# Altium integrated library Renesas Microprocessor SuperH.IntLib: 433 symbols (part 56 of 62)
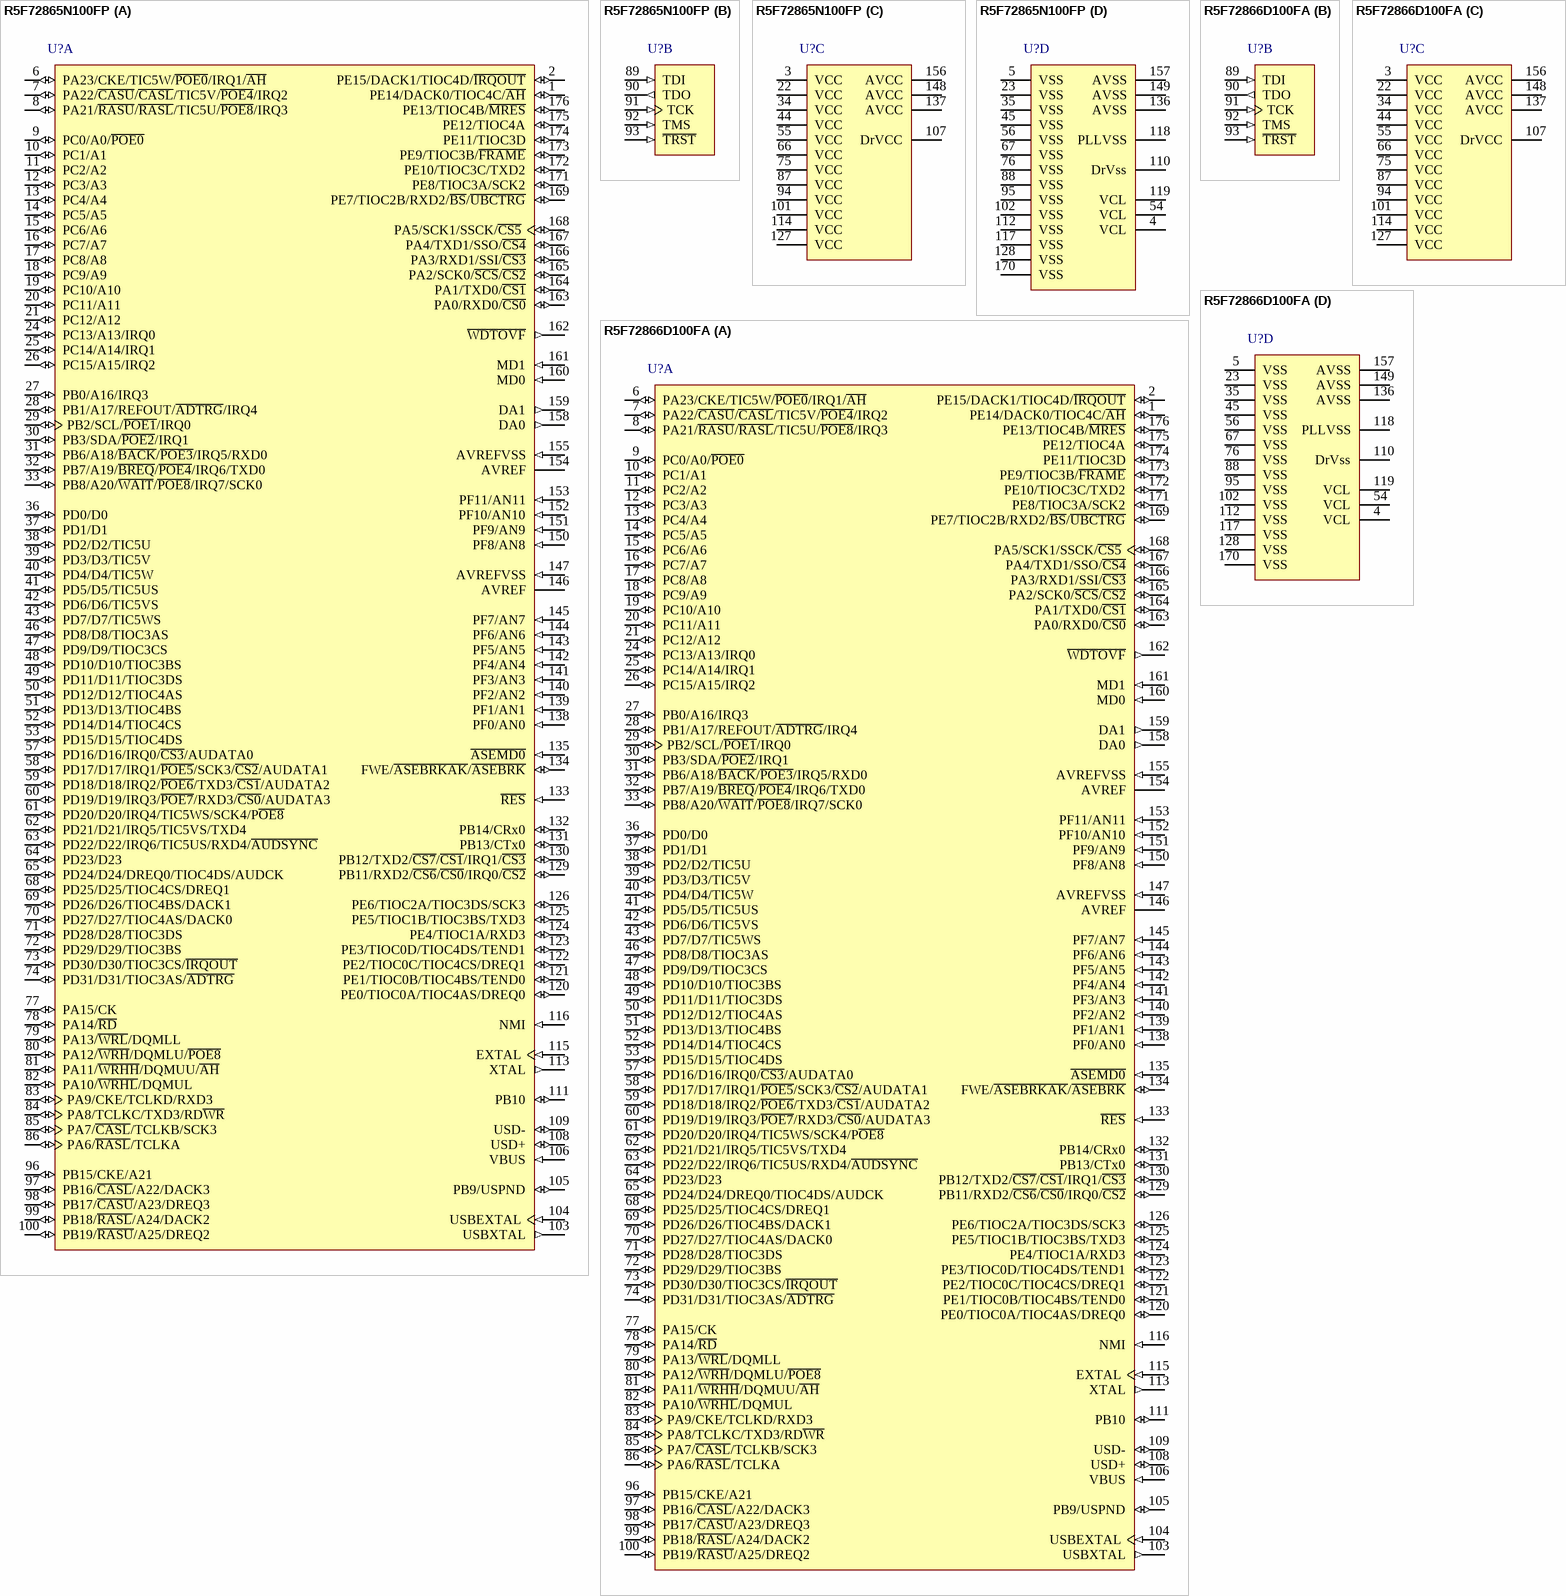
[diagram p413: symbols R5F72865N100FP to R5F72866D100FA]

## R5F72866D100FA
designator U?
32-Bit RISC Microcomputer, SH7280 Series, SH-2A core, 100MHz, 768K ROM, 32K RAM, 20x20mm 176-pin PLQFP, -40 to 85°C; Published: 28-Aug-2009; DatasheetVersion: Rev.1.00, Jun-2008; PackageVersion: Sep-2005; PackageReference: PLQP0176LB-A; Publisher: Altium Limited; PackageDescription: 176-Pin Plastic Low Profile QFP, 20 x 20 x 1.4 mm Body, 0.4 mm Pitch; Code_JEITA: P-LQFP176-20x20-0.40; ComponentLink1Description: Manufacturer Link; ComponentLink1URL: http://www.renesas.com/fmwk.jsp?cnt=sh7286_root.jsp&fp=/products/mpumcu/superh_family/sh7280_series/sh7286_group/; ComponentLink2Description: Datasheet; ComponentLink2URL: http://documentation.renesas.com/eng/products/mpumcu/rej09b0393_sh7280hm.pdf; ComponentLink3Description: Packaging Specification; ComponentLink3URL: http://sg.renesas.com/media/products/common_info/package/pdf/ic/code/plqp0176lb_a.pdf
footprint PLQP0176LB-A_N (Shrink QFP, 176-Leads, Body 20x20mm, Pitch 0.4mm, IPC Medium Density)
footprint PLQP0176LB-A_L (Shrink QFP, 176-Leads, Body 20x20mm, Pitch 0.4mm, IPC High Density)
footprint PLQP0176LB-A_M (Shrink QFP, 176-Leads, Body 20x20mm, Pitch 0.4mm, IPC Low Density)
part A pins: 1 PE14/DACK0/TIOC4C/~{AH} (io), 2 PE15/DACK1/TIOC4D/~{IRQOUT} (io), 6 PA23/CKE/TIC5W/~{POE0}/IRQ1/~{AH} (io), 7 PA22/~{CASU}/~{CASL}/TIC5V/~{POE4}/IRQ2 (io), 8 PA21/~{RASU}/~{RASL}/TIC5U/~{POE8}/IRQ3 (io), 9 PC0/A0/~{POE0} (io), 10 PC1/A1 (io), 11 PC2/A2 (io), 12 PC3/A3 (io), 13 PC4/A4 (io), 14 PC5/A5 (io), 15 PC6/A6 (io), 16 PC7/A7 (io), 17 PC8/A8 (io), 18 PC9/A9 (io), 19 PC10/A10 (io), 20 PC11/A11 (io), 21 PC12/A12 (io), 24 PC13/A13/IRQ0 (io), 25 PC14/A14/IRQ1 (io), 26 PC15/A15/IRQ2 (io), 27 PB0/A16/IRQ3 (io), 28 PB1/A17/REFOUT/~{ADTRG}/IRQ4 (io), 29 PB2/SCL/~{POE1}/IRQ0 (io), 30 PB3/SDA/~{POE2}/IRQ1 (io), 31 PB6/A18/~{BACK}/~{POE3}/IRQ5/RXD0 (io), 32 PB7/A19/~{BREQ}/~{POE4}/IRQ6/TXD0 (io), 33 PB8/A20/~{WAIT}/~{POE8}/IRQ7/SCK0 (io), 36 PD0/D0 (io), 37 PD1/D1 (io), 38 PD2/D2/TIC5U (io), 39 PD3/D3/TIC5V (io), 40 PD4/D4/TIC5W (io), 41 PD5/D5/TIC5US (io), 42 PD6/D6/TIC5VS (io), 43 PD7/D7/TIC5WS (io), 46 PD8/D8/TIOC3AS (io), 47 PD9/D9/TIOC3CS (io), 48 PD10/D10/TIOC3BS (io), 49 PD11/D11/TIOC3DS (io), 50 PD12/D12/TIOC4AS (io), 51 PD13/D13/TIOC4BS (io), 52 PD14/D14/TIOC4CS (io), 53 PD15/D15/TIOC4DS (io), 57 PD16/D16/IRQ0/~{CS3}/AUDATA0 (io), 58 PD17/D17/IRQ1/~{POE5}/SCK3/~{CS2}/AUDATA1 (io), 59 PD18/D18/IRQ2/~{POE6}/TXD3/~{CS1}/AUDATA2 (io), 60 PD19/D19/IRQ3/~{POE7}/RXD3/~{CS0}/AUDATA3 (io), 61 PD20/D20/IRQ4/TIC5WS/SCK4/P~{OE8} (io), 62 PD21/D21/IRQ5/TIC5VS/TXD4 (io), 63 PD22/D22/IRQ6/TIC5US/RXD4/~{AUDSYNC} (io), 64 PD23/D23 (io), 65 PD24/D24/DREQ0/TIOC4DS/AUDCK (io), 68 PD25/D25/TIOC4CS/DREQ1 (io), 69 PD26/D26/TIOC4BS/DACK1 (io), 70 PD27/D27/TIOC4AS/DACK0 (io), 71 PD28/D28/TIOC3DS (io), 72 PD29/D29/TIOC3BS (io), 73 PD30/D30/TIOC3CS/~{IRQOUT} (io), 74 PD31/D31/TIOC3AS/~{ADTRG} (io), 77 PA15/CK (io), 78 PA14/~{RD} (io), 79 PA13/~{WRL}/DQMLL (io), 80 PA12/~{WRH}/DQMLU/~{POE8} (io), 81 PA11/~{WRHH}/DQMUU/~{AH} (io), 82 PA10/~{WRHL}/DQMUL (io), 83 PA9/CKE/TCLKD/RXD3 (io), 84 PA8/TCLKC/TXD3/RD~{WR} (io), 85 PA7/~{CASL}/TCLKB/SCK3 (io), 86 PA6/~{RASL}/TCLKA (io), 96 PB15/CKE/A21 (io), 97 PB16/~{CASL}/A22/DACK3 (io), 98 PB17/~{CASU}/A23/DREQ3 (io), 99 PB18/~{RASL}/A24/DACK2 (io), 100 PB19/~{RASU}/A25/DREQ2 (io), 103 USBXTAL (out), 104 USBEXTAL (in), 105 PB9/USPND (io), 106 VBUS (in), 108 USD+ (io), 109 USD- (io), 111 PB10 (io), 113 XTAL (out), 115 EXTAL (in), 116 NMI (in), 120 PE0/TIOC0A/TIOC4AS/DREQ0 (io), 121 PE1/TIOC0B/TIOC4BS/TEND0 (io), 122 PE2/TIOC0C/TIOC4CS/DREQ1 (io), 123 PE3/TIOC0D/TIOC4DS/TEND1 (io), 124 PE4/TIOC1A/RXD3 (io), 125 PE5/TIOC1B/TIOC3BS/TXD3 (io), 126 PE6/TIOC2A/TIOC3DS/SCK3 (io), 129 PB11/RXD2/~{CS6}/~{CS0}/IRQ0/~{CS2} (io), 130 PB12/TXD2/~{CS7}/~{CS1}/IRQ1/~{CS3} (io), 131 PB13/CTx0 (io), 132 PB14/CRx0 (io), 133 ~{RES} (in), 134 FWE/~{ASEBRKAK}/~{ASEBRK} (io), 135 ~{ASEMD0} (in), 138 PF0/AN0 (in), 139 PF1/AN1 (in), 140 PF2/AN2 (in), 141 PF3/AN3 (in), 142 PF4/AN4 (in), 143 PF5/AN5 (in), 144 PF6/AN6 (in), 145 PF7/AN7 (in), 146 AVREF (power), 147 AVREFVSS (in), 150 PF8/AN8 (in), 151 PF9/AN9 (in), 152 PF10/AN10 (in), 153 PF11/AN11 (in), 154 AVREF (power), 155 AVREFVSS (in), 158 DA0 (out), 159 DA1 (out), 160 MD0 (in), 161 MD1 (in), 162 ~{WDTOVF} (out), 163 PA0/RXD0/~{CS0} (io), 164 PA1/TXD0/~{CS1} (io), 165 PA2/SCK0/~{SCS}/~{CS2} (io), 166 PA3/RXD1/SSI/~{CS3} (io), 167 PA4/TXD1/SSO/~{CS4} (io), 168 PA5/SCK1/SSCK/~{CS5} (io), 169 PE7/TIOC2B/RXD2/~{BS}/~{UBCTRG} (io), 171 PE8/TIOC3A/SCK2 (io), 172 PE10/TIOC3C/TXD2 (io), 173 PE9/TIOC3B/~{FRAME} (io), 174 PE11/TIOC3D (io), 175 PE12/TIOC4A (io), 176 PE13/TIOC4B/~{MRES} (io)
part B pins: 89 TDI (in), 90 TDO (out), 91 TCK (in), 92 TMS (in), 93 ~{TRST} (in)
part C pins: 3 VCC (power), 22 VCC (power), 34 VCC (power), 44 VCC (power), 55 VCC (power), 66 VCC (power), 75 VCC (power), 87 VCC (power), 94 VCC (power), 101 VCC (power), 107 DrVCC (power), 114 VCC (power), 127 VCC (power), 137 AVCC (power), 148 AVCC (power), 156 AVCC (power)
part D pins: 4 VCL (power), 5 VSS (power), 23 VSS (power), 35 VSS (power), 45 VSS (power), 54 VCL (power), 56 VSS (power), 67 VSS (power), 76 VSS (power), 88 VSS (power), 95 VSS (power), 102 VSS (power), 110 DrVss (power), 112 VSS (power), 117 VSS (power), 118 PLLVSS (power), 119 VCL (power), 128 VSS (power), 136 AVSS (power), 149 AVSS (power), 157 AVSS (power), 170 VSS (power)

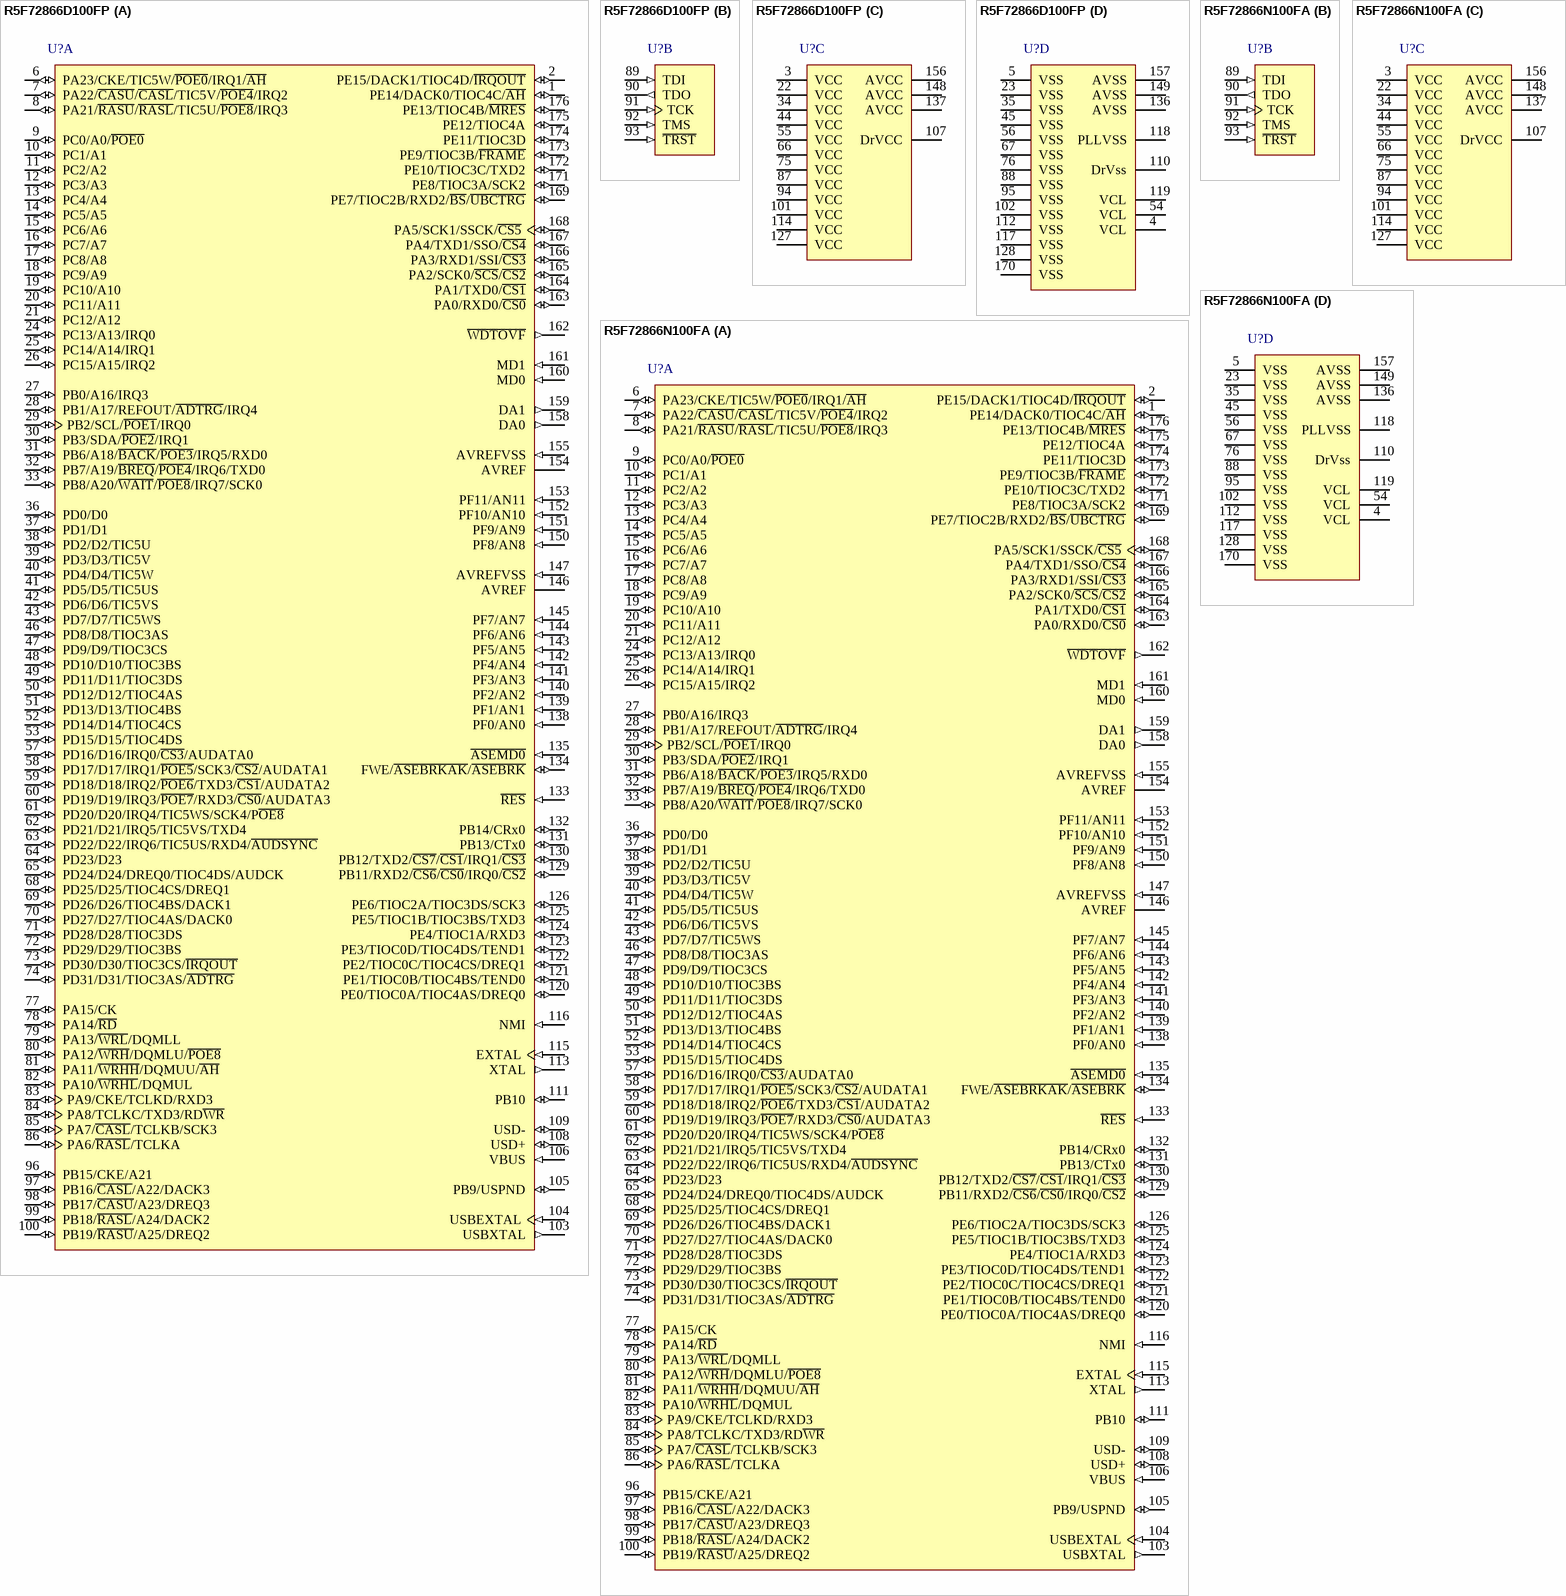
[diagram p189: symbols R5F72866D100FP to R5F72866N100FA]

## R5F72866D100FP
designator U?
32-Bit RISC Microcomputer, SH7280 Series, SH-2A core, 100MHz, 768K ROM, 32K RAM, 24x24mm 176-pin PLQFP, -40 to 85°C; Published: 28-Aug-2009; DatasheetVersion: Rev.1.00, Jun-2008; PackageVersion: Oct-2005; PackageReference: PLQP0176KB-A; Publisher: Altium Limited; PackageDescription: 176-Pin Plastic Low Profile QFP, 24 x 24 x 1.4 mm Body, 0.5 mm Pitch; Code_JEITA: P-LQFP176-24x24-0.50; ComponentLink1Description: Manufacturer Link; ComponentLink1URL: http://www.renesas.com/fmwk.jsp?cnt=sh7286_root.jsp&fp=/products/mpumcu/superh_family/sh7280_series/sh7286_group/; ComponentLink2Description: Datasheet; ComponentLink2URL: http://documentation.renesas.com/eng/products/mpumcu/rej09b0393_sh7280hm.pdf; ComponentLink3Description: Packaging Specification; ComponentLink3URL: http://sg.renesas.com/media/products/common_info/package/pdf/ic/code/plqp0176kb_a.pdf
footprint PLQP0176KB-A_N (Shrink QFP, 176-Leads, Body 24x24mm, Pitch 0.5mm, IPC Medium Density)
footprint PLQP0176KB-A_L (Shrink QFP, 176-Leads, Body 24x24mm, Pitch 0.5mm, IPC High Density)
footprint PLQP0176KB-A_M (Shrink QFP, 176-Leads, Body 24x24mm, Pitch 0.5mm, IPC Low Density)
part A pins: 1 PE14/DACK0/TIOC4C/~{AH} (io), 2 PE15/DACK1/TIOC4D/~{IRQOUT} (io), 6 PA23/CKE/TIC5W/~{POE0}/IRQ1/~{AH} (io), 7 PA22/~{CASU}/~{CASL}/TIC5V/~{POE4}/IRQ2 (io), 8 PA21/~{RASU}/~{RASL}/TIC5U/~{POE8}/IRQ3 (io), 9 PC0/A0/~{POE0} (io), 10 PC1/A1 (io), 11 PC2/A2 (io), 12 PC3/A3 (io), 13 PC4/A4 (io), 14 PC5/A5 (io), 15 PC6/A6 (io), 16 PC7/A7 (io), 17 PC8/A8 (io), 18 PC9/A9 (io), 19 PC10/A10 (io), 20 PC11/A11 (io), 21 PC12/A12 (io), 24 PC13/A13/IRQ0 (io), 25 PC14/A14/IRQ1 (io), 26 PC15/A15/IRQ2 (io), 27 PB0/A16/IRQ3 (io), 28 PB1/A17/REFOUT/~{ADTRG}/IRQ4 (io), 29 PB2/SCL/~{POE1}/IRQ0 (io), 30 PB3/SDA/~{POE2}/IRQ1 (io), 31 PB6/A18/~{BACK}/~{POE3}/IRQ5/RXD0 (io), 32 PB7/A19/~{BREQ}/~{POE4}/IRQ6/TXD0 (io), 33 PB8/A20/~{WAIT}/~{POE8}/IRQ7/SCK0 (io), 36 PD0/D0 (io), 37 PD1/D1 (io), 38 PD2/D2/TIC5U (io), 39 PD3/D3/TIC5V (io), 40 PD4/D4/TIC5W (io), 41 PD5/D5/TIC5US (io), 42 PD6/D6/TIC5VS (io), 43 PD7/D7/TIC5WS (io), 46 PD8/D8/TIOC3AS (io), 47 PD9/D9/TIOC3CS (io), 48 PD10/D10/TIOC3BS (io), 49 PD11/D11/TIOC3DS (io), 50 PD12/D12/TIOC4AS (io), 51 PD13/D13/TIOC4BS (io), 52 PD14/D14/TIOC4CS (io), 53 PD15/D15/TIOC4DS (io), 57 PD16/D16/IRQ0/~{CS3}/AUDATA0 (io), 58 PD17/D17/IRQ1/~{POE5}/SCK3/~{CS2}/AUDATA1 (io), 59 PD18/D18/IRQ2/~{POE6}/TXD3/~{CS1}/AUDATA2 (io), 60 PD19/D19/IRQ3/~{POE7}/RXD3/~{CS0}/AUDATA3 (io), 61 PD20/D20/IRQ4/TIC5WS/SCK4/P~{OE8} (io), 62 PD21/D21/IRQ5/TIC5VS/TXD4 (io), 63 PD22/D22/IRQ6/TIC5US/RXD4/~{AUDSYNC} (io), 64 PD23/D23 (io), 65 PD24/D24/DREQ0/TIOC4DS/AUDCK (io), 68 PD25/D25/TIOC4CS/DREQ1 (io), 69 PD26/D26/TIOC4BS/DACK1 (io), 70 PD27/D27/TIOC4AS/DACK0 (io), 71 PD28/D28/TIOC3DS (io), 72 PD29/D29/TIOC3BS (io), 73 PD30/D30/TIOC3CS/~{IRQOUT} (io), 74 PD31/D31/TIOC3AS/~{ADTRG} (io), 77 PA15/CK (io), 78 PA14/~{RD} (io), 79 PA13/~{WRL}/DQMLL (io), 80 PA12/~{WRH}/DQMLU/~{POE8} (io), 81 PA11/~{WRHH}/DQMUU/~{AH} (io), 82 PA10/~{WRHL}/DQMUL (io), 83 PA9/CKE/TCLKD/RXD3 (io), 84 PA8/TCLKC/TXD3/RD~{WR} (io), 85 PA7/~{CASL}/TCLKB/SCK3 (io), 86 PA6/~{RASL}/TCLKA (io), 96 PB15/CKE/A21 (io), 97 PB16/~{CASL}/A22/DACK3 (io), 98 PB17/~{CASU}/A23/DREQ3 (io), 99 PB18/~{RASL}/A24/DACK2 (io), 100 PB19/~{RASU}/A25/DREQ2 (io), 103 USBXTAL (out), 104 USBEXTAL (in), 105 PB9/USPND (io), 106 VBUS (in), 108 USD+ (io), 109 USD- (io), 111 PB10 (io), 113 XTAL (out), 115 EXTAL (in), 116 NMI (in), 120 PE0/TIOC0A/TIOC4AS/DREQ0 (io), 121 PE1/TIOC0B/TIOC4BS/TEND0 (io), 122 PE2/TIOC0C/TIOC4CS/DREQ1 (io), 123 PE3/TIOC0D/TIOC4DS/TEND1 (io), 124 PE4/TIOC1A/RXD3 (io), 125 PE5/TIOC1B/TIOC3BS/TXD3 (io), 126 PE6/TIOC2A/TIOC3DS/SCK3 (io), 129 PB11/RXD2/~{CS6}/~{CS0}/IRQ0/~{CS2} (io), 130 PB12/TXD2/~{CS7}/~{CS1}/IRQ1/~{CS3} (io), 131 PB13/CTx0 (io), 132 PB14/CRx0 (io), 133 ~{RES} (in), 134 FWE/~{ASEBRKAK}/~{ASEBRK} (io), 135 ~{ASEMD0} (in), 138 PF0/AN0 (in), 139 PF1/AN1 (in), 140 PF2/AN2 (in), 141 PF3/AN3 (in), 142 PF4/AN4 (in), 143 PF5/AN5 (in), 144 PF6/AN6 (in), 145 PF7/AN7 (in), 146 AVREF (power), 147 AVREFVSS (in), 150 PF8/AN8 (in), 151 PF9/AN9 (in), 152 PF10/AN10 (in), 153 PF11/AN11 (in), 154 AVREF (power), 155 AVREFVSS (in), 158 DA0 (out), 159 DA1 (out), 160 MD0 (in), 161 MD1 (in), 162 ~{WDTOVF} (out), 163 PA0/RXD0/~{CS0} (io), 164 PA1/TXD0/~{CS1} (io), 165 PA2/SCK0/~{SCS}/~{CS2} (io), 166 PA3/RXD1/SSI/~{CS3} (io), 167 PA4/TXD1/SSO/~{CS4} (io), 168 PA5/SCK1/SSCK/~{CS5} (io), 169 PE7/TIOC2B/RXD2/~{BS}/~{UBCTRG} (io), 171 PE8/TIOC3A/SCK2 (io), 172 PE10/TIOC3C/TXD2 (io), 173 PE9/TIOC3B/~{FRAME} (io), 174 PE11/TIOC3D (io), 175 PE12/TIOC4A (io), 176 PE13/TIOC4B/~{MRES} (io)
part B pins: 89 TDI (in), 90 TDO (out), 91 TCK (in), 92 TMS (in), 93 ~{TRST} (in)
part C pins: 3 VCC (power), 22 VCC (power), 34 VCC (power), 44 VCC (power), 55 VCC (power), 66 VCC (power), 75 VCC (power), 87 VCC (power), 94 VCC (power), 101 VCC (power), 107 DrVCC (power), 114 VCC (power), 127 VCC (power), 137 AVCC (power), 148 AVCC (power), 156 AVCC (power)
part D pins: 4 VCL (power), 5 VSS (power), 23 VSS (power), 35 VSS (power), 45 VSS (power), 54 VCL (power), 56 VSS (power), 67 VSS (power), 76 VSS (power), 88 VSS (power), 95 VSS (power), 102 VSS (power), 110 DrVss (power), 112 VSS (power), 117 VSS (power), 118 PLLVSS (power), 119 VCL (power), 128 VSS (power), 136 AVSS (power), 149 AVSS (power), 157 AVSS (power), 170 VSS (power)